# EAGLE library part EXB-V8VXXXJV (library ARVP)
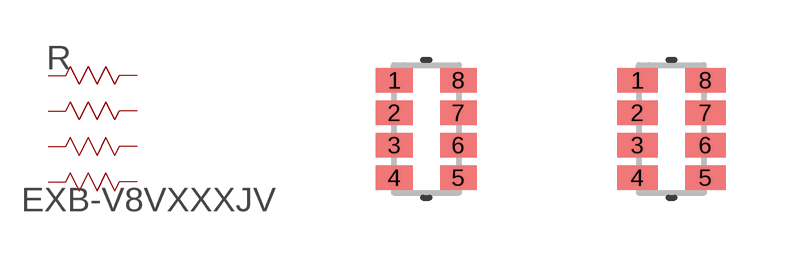
[diagram p24: symbol with the pads of EXBV8V; footprints EXBV8V, EXBV8V-M]

Designator prefix R

## EXB-V8VXXXJV (MANUFACTURER_PART_NUMBER: EXBV8V221JV; VENDOR: Panasonic)  [EXBV8V]
1  11  pas
2  23  pas
3  35  pas
4  47  pas
5  58  pas
6  66  pas
7  74  pas
8  82  pas

## EXB-V8VXXXJVEXBV8V-M (MANUFACTURER_PART_NUMBER: EXBV8V221JV; VENDOR: Panasonic)  [EXBV8V-M]
Pads as for EXBV8V

## EXB-V8VXXXJVEXBV8V-L (MANUFACTURER_PART_NUMBER: EXBV8V221JV; VENDOR: Panasonic)  [EXBV8V-L]
Pads as for EXBV8V

## Footprint EXBV8V (pad centres in mm)
smd 0.914 x 0.61: 1 -0.8,1.219; 2 -0.8,0.406; 3 -0.8,-0.406; 4 -0.8,-1.219; 5 0.8,-1.219; 6 0.8,-0.406; 7 0.8,0.406; 8 0.8,1.219

## Footprint EXBV8V-M (pad centres in mm)
smd 1.016 x 0.61: 1 -0.851,1.219; 2 -0.851,0.406; 3 -0.851,-0.406; 4 -0.851,-1.219; 5 0.851,-1.219; 6 0.851,-0.406; 7 0.851,0.406; 8 0.851,1.219

## Footprint EXBV8V-L (pad centres in mm)
smd 0.813 x 0.61: 1 -0.749,1.219; 2 -0.749,0.406; 3 -0.749,-0.406; 4 -0.749,-1.219; 5 0.749,-1.219; 6 0.749,-0.406; 7 0.749,0.406; 8 0.749,1.219